# Altium integrated library TI Data Converters Analog to Digital Converter.IntLib: 2198 symbols (part 37 of 164)
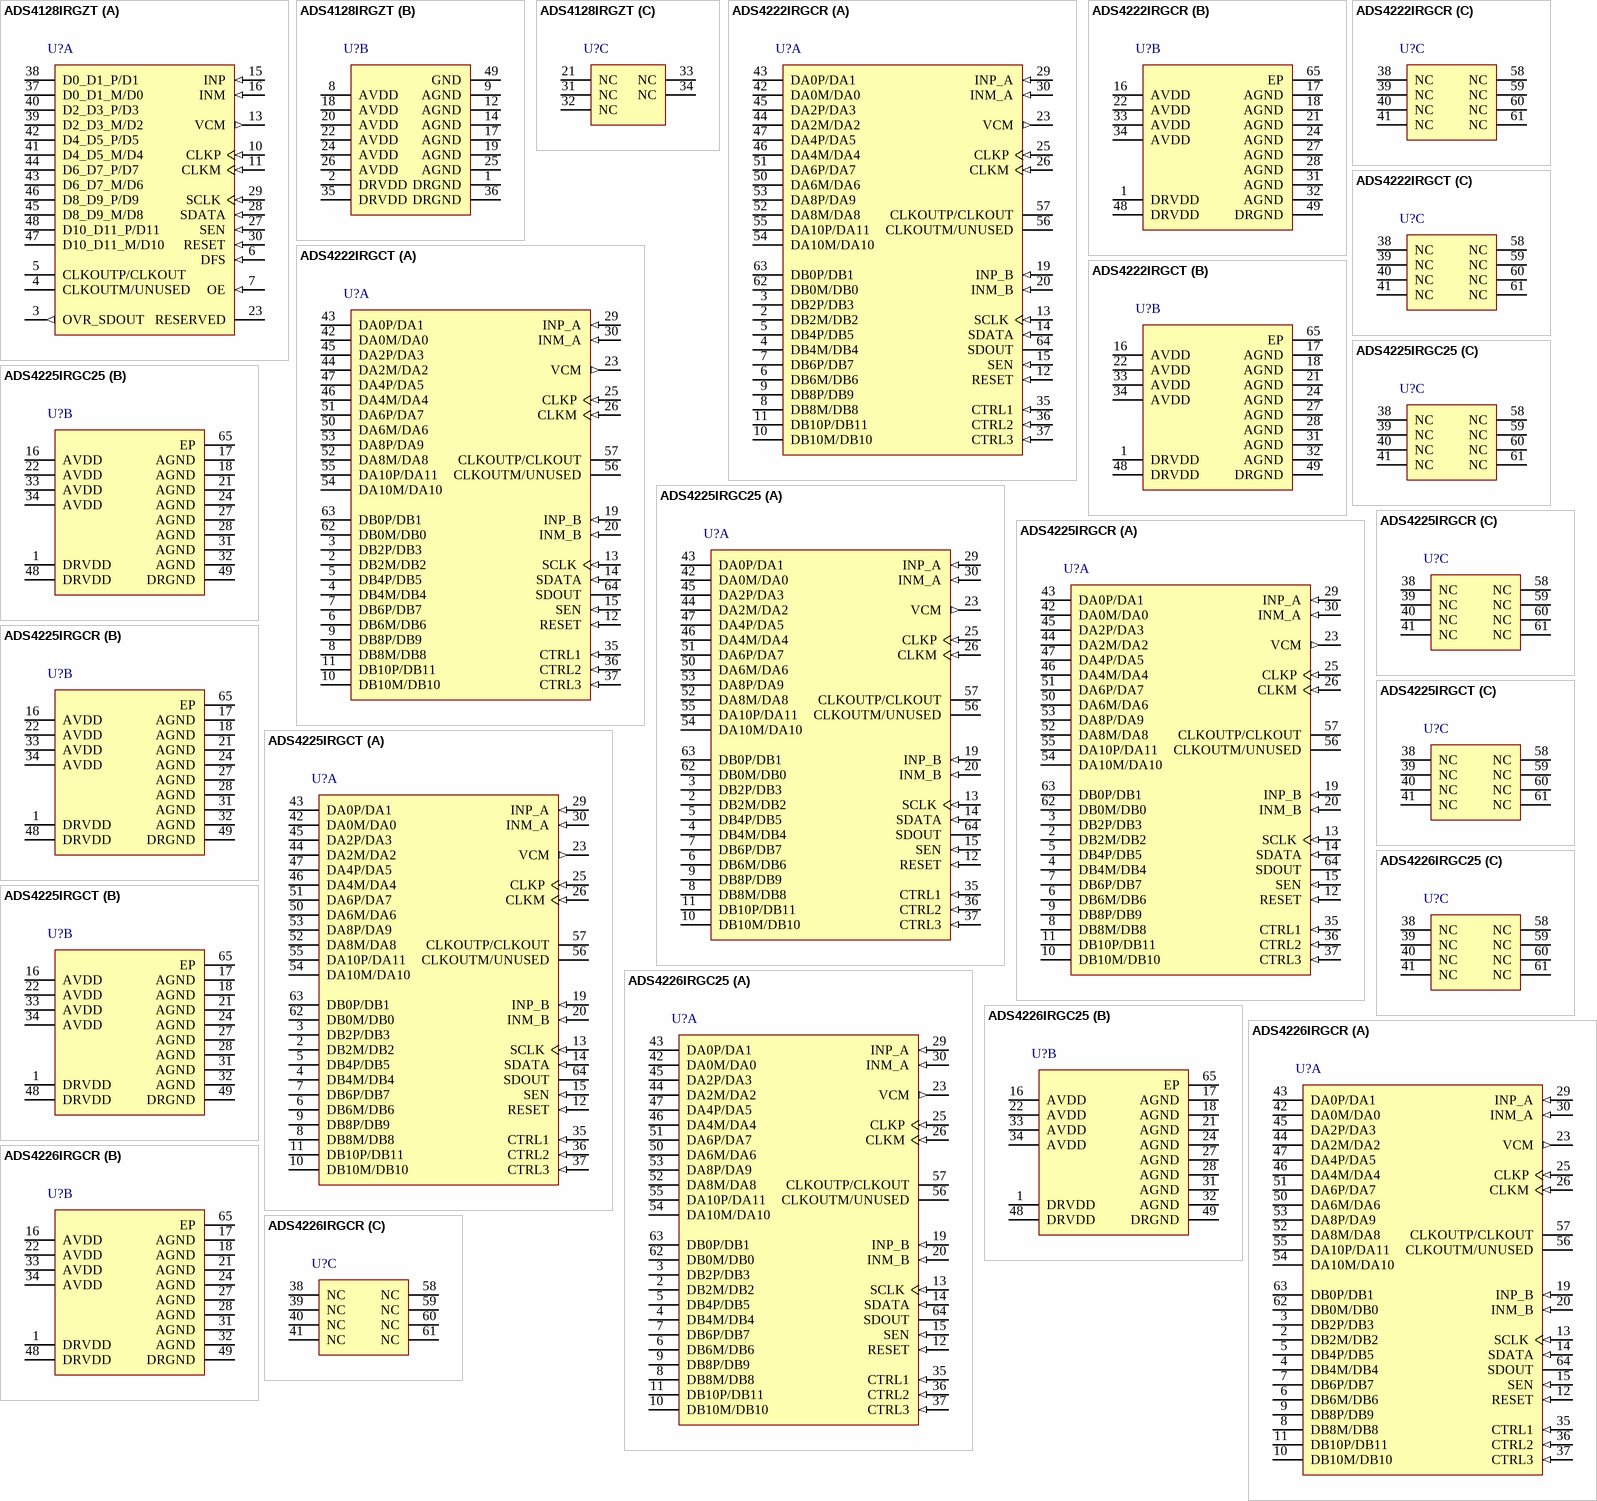
[diagram p162: symbols ADS4128IRGZT to ADS4226IRGCR]

## ADS4222IRGCT
designator U?
12-Bit 65 MSPS Dual Low Power ADC, -40 to 85 degC, 64-pin QFN (RGC64), Green (RoHS & no Sb/Br); Manufacturer: Texas Instruments; PartNumber: ADS4222IRGCT; # Input Channels: 2; Analog Voltage AV/DD(Max)(V): 1.9; Analog Voltage AV/DD(Min)(V): 1.7; Architecture: Pipeline; ENOB(Bits): 11.1; INL(Max)(+/-LSB): 2.5; Interface: Parallel CMOS, Parallel LVDS; Resolution(Bits): 12; Sample Rate (max)(SPS): 65M; SFDR(dB): 91; SINAD(dB): 70.8; SNR(dB): 70.9; SubFamily: High Speed ADC (>10MSPS); DatasheetVersion: SBAS533C; PackageVersion: 4204106/F, 11/2011; PackageReference: RGC64-7400X7400TP; PackageDescription: 64-Pin Plastic Quad Flatpack No-Lead, Body 9 x 9 mm, Pitch 0.5 mm; Supplier 1: Digi-Key; Supplier Part Number 1: 296-34195-5-ND; Digital Supply(Max)(V): 1.9; Digital Supply(Min)(V): 1.7; Eco-Plan: Green (RoHS & no Sb/Br); Mounting Technology: Surface Mount; ComponentLink1Description: Manufacturer URL; ComponentLink1URL: http://www.ti.com/; ComponentLink2Description: Datasheet; ComponentLink2URL: http://www.ti.com/general/docs/lit/getliterature.tsp?genericPartNumber=ADS4222&fileType=pdf; ComponentLink3Description: Package Specification; ComponentLink3URL: http://www.ti.com/litv/pdf/mpqf125e
footprint TI-RGC64-7400X7400TP_V (QFN, 64-Leads, Body 9x9mm, Pitch 0.5mm, Thermal Pad 7.4x7.4mm, TI Recommended)
part A pins: 2 DB2M/DB2 (hiz), 3 DB2P/DB3 (hiz), 4 DB4M/DB4 (hiz), 5 DB4P/DB5 (hiz), 6 DB6M/DB6 (hiz), 7 DB6P/DB7 (hiz), 8 DB8M/DB8 (hiz), 9 DB8P/DB9 (hiz), 10 DB10M/DB10 (hiz), 11 DB10P/DB11 (hiz), 12 RESET (in) "Serial interface RESET input. When using the serial interface mode, the internal registers must be initialized through a hardware RESET by applying a high pulse on this pin or by using the software reset option; refer to the (See Datasheet)", 13 SCLK (in) "This pin functions as a serial interface clock input when RESET is low. It controls the low-speed mode selection when RESET is tied high; see Table 5 for detailed information. This pin has an internal 150kOhm pull-down (See Datasheet)", 14 SDATA (in) "Serial interface data input; this pin has an internal 150kOhm pull-down resistor.", 15 SEN (in) "This pin functions as a serial interface enable input when RESET is low. It controls the output interface and data format selection when RESET is tied high; see Table 6 for detailed information. This pin has an internal (See Datasheet)", 19 INP_B (in) "Differential analog positive input, channel B", 20 INM_B (in) "Differential analog negative input, channel B", 23 VCM (out) "This pin outputs the common-mode voltage (0.95V) that can be used externally to bias the analog input pins", 25 CLKP (in) "Differential clock positive input", 26 CLKM (in) "Differential clock negative input", 29 INP_A (in) "Differential analog positive input, channel A", 30 INM_A (in) "Differential analog negative input, channel A", 35 CTRL1 (in) "Digital control input pins. Together, they control the various power-down modes.", 36 CTRL2 (in) "Digital control input pins. Together, they control the various power-down modes.", 37 CTRL3 (in) "Digital control input pins. Together, they control the various power-down modes.", 42 DA0M/DA0 (hiz), 43 DA0P/DA1 (hiz), 44 DA2M/DA2 (hiz), 45 DA2P/DA3 (hiz), 46 DA4M/DA4 (hiz), 47 DA4P/DA5 (hiz), 50 DA6M/DA6 (hiz), 51 DA6P/DA7 (hiz), 52 DA8M/DA8 (hiz), 53 DA8P/DA9 (hiz), 54 DA10M/DA10 (hiz), 55 DA10P/DA11 (hiz), 56 CLKOUTM/UNUSED (hiz), 57 CLKOUTP/CLKOUT (hiz), 62 DB0M/DB0 (hiz), 63 DB0P/DB1 (hiz), 64 SDOUT (hiz) "This pin functions as a serial interface register readout when the READOUT bit is enabled. When READOUT = 0, this pin is in high-impedance state."
part B pins: 1 DRVDD (power) "Output buffer supply", 16 AVDD (power) "Analog power supply", 17 AGND (power) "Analog ground", 18 AGND (power) "Analog ground", 21 AGND (power) "Analog ground", 22 AVDD (power) "Analog power supply", 24 AGND (power) "Analog ground", 27 AGND (power) "Analog ground", 28 AGND (power) "Analog ground", 31 AGND (power) "Analog ground", 32 AGND (power) "Analog ground", 33 AVDD (power) "Analog power supply", 34 AVDD (power) "Analog power supply", 48 DRVDD (power) "Output buffer supply", 49 DRGND (power) "Output buffer ground", 65 EP (power) "Output buffer ground"
part C pins: 38 NC "Do not connect, must be floated", 39 NC "Do not connect, must be floated", 40 NC "Do not connect, must be floated", 41 NC "Do not connect, must be floated", 58 NC "Do not connect, must be floated", 59 NC "Do not connect, must be floated", 60 NC "Do not connect, must be floated", 61 NC "Do not connect, must be floated"

## ADS4225IRGC25
designator U?
12-Bit 125 MSPS Dual Low Power ADC, -40 to 85 degC, 64-pin QFN (RGC64), Green (RoHS & no Sb/Br); Manufacturer: Texas Instruments; PartNumber: ADS4225IRGC25; # Input Channels: 2; Analog Voltage AV/DD(Max)(V): 1.9; Analog Voltage AV/DD(Min)(V): 1.7; Architecture: Pipeline; ENOB(Bits): 11.3; INL(Max)(+/-LSB): 3.5; Interface: Parallel CMOS, Parallel LVDS; Resolution(Bits): 12; Sample Rate (max)(SPS): 125M; SFDR(dB): 88; SINAD(dB): 70.7; SNR(dB): 70.8; SubFamily: High Speed ADC (>10MSPS); DatasheetVersion: SBAS533C; PackageVersion: 4204106/F, 11/2011; PackageReference: RGC64-7400X7400TP; PackageDescription: 64-Pin Plastic Quad Flatpack No-Lead, Body 9 x 9 mm, Pitch 0.5 mm; Supplier 1: Digi-Key; Supplier Part Number 1: THS1031CPWG4-ND; Digital Supply(Max)(V): 1.9; Digital Supply(Min)(V): 1.7; Eco-Plan: Green (RoHS & no Sb/Br); Mounting Technology: Surface Mount; ComponentLink1Description: Manufacturer URL; ComponentLink1URL: http://www.ti.com/; ComponentLink2Description: Datasheet; ComponentLink2URL: http://www.ti.com/general/docs/lit/getliterature.tsp?genericPartNumber=ADS4225&fileType=pdf; ComponentLink3Description: Package Specification; ComponentLink3URL: http://www.ti.com/litv/pdf/mpqf125e
footprint TI-RGC64-7400X7400TP_V (QFN, 64-Leads, Body 9x9mm, Pitch 0.5mm, Thermal Pad 7.4x7.4mm, TI Recommended)
part A pins: 2 DB2M/DB2 (hiz), 3 DB2P/DB3 (hiz), 4 DB4M/DB4 (hiz), 5 DB4P/DB5 (hiz), 6 DB6M/DB6 (hiz), 7 DB6P/DB7 (hiz), 8 DB8M/DB8 (hiz), 9 DB8P/DB9 (hiz), 10 DB10M/DB10 (hiz), 11 DB10P/DB11 (hiz), 12 RESET (in) "Serial interface RESET input. When using the serial interface mode, the internal registers must be initialized through a hardware RESET by applying a high pulse on this pin or by using the software reset option; refer to the (See Datasheet)", 13 SCLK (in) "This pin functions as a serial interface clock input when RESET is low. It controls the low-speed mode selection when RESET is tied high; see Table 5 for detailed information. This pin has an internal 150kOhm pull-down (See Datasheet)", 14 SDATA (in) "Serial interface data input; this pin has an internal 150kOhm pull-down resistor.", 15 SEN (in) "This pin functions as a serial interface enable input when RESET is low. It controls the output interface and data format selection when RESET is tied high; see Table 6 for detailed information. This pin has an internal (See Datasheet)", 19 INP_B (in) "Differential analog positive input, channel B", 20 INM_B (in) "Differential analog negative input, channel B", 23 VCM (out) "This pin outputs the common-mode voltage (0.95V) that can be used externally to bias the analog input pins", 25 CLKP (in) "Differential clock positive input", 26 CLKM (in) "Differential clock negative input", 29 INP_A (in) "Differential analog positive input, channel A", 30 INM_A (in) "Differential analog negative input, channel A", 35 CTRL1 (in) "Digital control input pins. Together, they control the various power-down modes.", 36 CTRL2 (in) "Digital control input pins. Together, they control the various power-down modes.", 37 CTRL3 (in) "Digital control input pins. Together, they control the various power-down modes.", 42 DA0M/DA0 (hiz), 43 DA0P/DA1 (hiz), 44 DA2M/DA2 (hiz), 45 DA2P/DA3 (hiz), 46 DA4M/DA4 (hiz), 47 DA4P/DA5 (hiz), 50 DA6M/DA6 (hiz), 51 DA6P/DA7 (hiz), 52 DA8M/DA8 (hiz), 53 DA8P/DA9 (hiz), 54 DA10M/DA10 (hiz), 55 DA10P/DA11 (hiz), 56 CLKOUTM/UNUSED (hiz), 57 CLKOUTP/CLKOUT (hiz), 62 DB0M/DB0 (hiz), 63 DB0P/DB1 (hiz), 64 SDOUT (hiz) "This pin functions as a serial interface register readout when the READOUT bit is enabled. When READOUT = 0, this pin is in high-impedance state."
part B pins: 1 DRVDD (power) "Output buffer supply", 16 AVDD (power) "Analog power supply", 17 AGND (power) "Analog ground", 18 AGND (power) "Analog ground", 21 AGND (power) "Analog ground", 22 AVDD (power) "Analog power supply", 24 AGND (power) "Analog ground", 27 AGND (power) "Analog ground", 28 AGND (power) "Analog ground", 31 AGND (power) "Analog ground", 32 AGND (power) "Analog ground", 33 AVDD (power) "Analog power supply", 34 AVDD (power) "Analog power supply", 48 DRVDD (power) "Output buffer supply", 49 DRGND (power) "Output buffer ground", 65 EP (power) "Output buffer ground"
part C pins: 38 NC "Do not connect, must be floated", 39 NC "Do not connect, must be floated", 40 NC "Do not connect, must be floated", 41 NC "Do not connect, must be floated", 58 NC "Do not connect, must be floated", 59 NC "Do not connect, must be floated", 60 NC "Do not connect, must be floated", 61 NC "Do not connect, must be floated"

## ADS4225IRGCR
designator U?
12-Bit 125 MSPS Dual Low Power ADC, -40 to 85 degC, 64-pin QFN (RGC64), Green (RoHS & no Sb/Br); Manufacturer: Texas Instruments; PartNumber: ADS4225IRGCR; # Input Channels: 2; Analog Voltage AV/DD(Max)(V): 1.9; Analog Voltage AV/DD(Min)(V): 1.7; Architecture: Pipeline; ENOB(Bits): 11.3; INL(Max)(+/-LSB): 3.5; Interface: Parallel CMOS, Parallel LVDS; Resolution(Bits): 12; Sample Rate (max)(SPS): 125M; SFDR(dB): 88; SINAD(dB): 70.7; SNR(dB): 70.8; SubFamily: High Speed ADC (>10MSPS); DatasheetVersion: SBAS533C; PackageVersion: 4204106/F, 11/2011; PackageReference: RGC64-7400X7400TP; PackageDescription: 64-Pin Plastic Quad Flatpack No-Lead, Body 9 x 9 mm, Pitch 0.5 mm; Supplier 1: Digi-Key; Supplier Part Number 1: THS1031CPWR-ND; Digital Supply(Max)(V): 1.9; Digital Supply(Min)(V): 1.7; Eco-Plan: Green (RoHS & no Sb/Br); Mounting Technology: Surface Mount; ComponentLink1Description: Manufacturer URL; ComponentLink1URL: http://www.ti.com/; ComponentLink2Description: Datasheet; ComponentLink2URL: http://www.ti.com/general/docs/lit/getliterature.tsp?genericPartNumber=ADS4225&fileType=pdf; ComponentLink3Description: Package Specification; ComponentLink3URL: http://www.ti.com/litv/pdf/mpqf125e
footprint TI-RGC64-7400X7400TP_V (QFN, 64-Leads, Body 9x9mm, Pitch 0.5mm, Thermal Pad 7.4x7.4mm, TI Recommended)
part A pins: 2 DB2M/DB2 (hiz), 3 DB2P/DB3 (hiz), 4 DB4M/DB4 (hiz), 5 DB4P/DB5 (hiz), 6 DB6M/DB6 (hiz), 7 DB6P/DB7 (hiz), 8 DB8M/DB8 (hiz), 9 DB8P/DB9 (hiz), 10 DB10M/DB10 (hiz), 11 DB10P/DB11 (hiz), 12 RESET (in) "Serial interface RESET input. When using the serial interface mode, the internal registers must be initialized through a hardware RESET by applying a high pulse on this pin or by using the software reset option; refer to the (See Datasheet)", 13 SCLK (in) "This pin functions as a serial interface clock input when RESET is low. It controls the low-speed mode selection when RESET is tied high; see Table 5 for detailed information. This pin has an internal 150kOhm pull-down (See Datasheet)", 14 SDATA (in) "Serial interface data input; this pin has an internal 150kOhm pull-down resistor.", 15 SEN (in) "This pin functions as a serial interface enable input when RESET is low. It controls the output interface and data format selection when RESET is tied high; see Table 6 for detailed information. This pin has an internal (See Datasheet)", 19 INP_B (in) "Differential analog positive input, channel B", 20 INM_B (in) "Differential analog negative input, channel B", 23 VCM (out) "This pin outputs the common-mode voltage (0.95V) that can be used externally to bias the analog input pins", 25 CLKP (in) "Differential clock positive input", 26 CLKM (in) "Differential clock negative input", 29 INP_A (in) "Differential analog positive input, channel A", 30 INM_A (in) "Differential analog negative input, channel A", 35 CTRL1 (in) "Digital control input pins. Together, they control the various power-down modes.", 36 CTRL2 (in) "Digital control input pins. Together, they control the various power-down modes.", 37 CTRL3 (in) "Digital control input pins. Together, they control the various power-down modes.", 42 DA0M/DA0 (hiz), 43 DA0P/DA1 (hiz), 44 DA2M/DA2 (hiz), 45 DA2P/DA3 (hiz), 46 DA4M/DA4 (hiz), 47 DA4P/DA5 (hiz), 50 DA6M/DA6 (hiz), 51 DA6P/DA7 (hiz), 52 DA8M/DA8 (hiz), 53 DA8P/DA9 (hiz), 54 DA10M/DA10 (hiz), 55 DA10P/DA11 (hiz), 56 CLKOUTM/UNUSED (hiz), 57 CLKOUTP/CLKOUT (hiz), 62 DB0M/DB0 (hiz), 63 DB0P/DB1 (hiz), 64 SDOUT (hiz) "This pin functions as a serial interface register readout when the READOUT bit is enabled. When READOUT = 0, this pin is in high-impedance state."
part B pins: 1 DRVDD (power) "Output buffer supply", 16 AVDD (power) "Analog power supply", 17 AGND (power) "Analog ground", 18 AGND (power) "Analog ground", 21 AGND (power) "Analog ground", 22 AVDD (power) "Analog power supply", 24 AGND (power) "Analog ground", 27 AGND (power) "Analog ground", 28 AGND (power) "Analog ground", 31 AGND (power) "Analog ground", 32 AGND (power) "Analog ground", 33 AVDD (power) "Analog power supply", 34 AVDD (power) "Analog power supply", 48 DRVDD (power) "Output buffer supply", 49 DRGND (power) "Output buffer ground", 65 EP (power) "Output buffer ground"
part C pins: 38 NC "Do not connect, must be floated", 39 NC "Do not connect, must be floated", 40 NC "Do not connect, must be floated", 41 NC "Do not connect, must be floated", 58 NC "Do not connect, must be floated", 59 NC "Do not connect, must be floated", 60 NC "Do not connect, must be floated", 61 NC "Do not connect, must be floated"

## ADS4225IRGCT
designator U?
12-Bit 125 MSPS Dual Low Power ADC, -40 to 85 degC, 64-pin QFN (RGC64), Green (RoHS & no Sb/Br); Manufacturer: Texas Instruments; PartNumber: ADS4225IRGCT; # Input Channels: 2; Analog Voltage AV/DD(Max)(V): 1.9; Analog Voltage AV/DD(Min)(V): 1.7; Architecture: Pipeline; ENOB(Bits): 11.3; INL(Max)(+/-LSB): 3.5; Interface: Parallel CMOS, Parallel LVDS; Resolution(Bits): 12; Sample Rate (max)(SPS): 125M; SFDR(dB): 88; SINAD(dB): 70.7; SNR(dB): 70.8; SubFamily: High Speed ADC (>10MSPS); DatasheetVersion: SBAS533C; PackageVersion: 4204106/F, 11/2011; PackageReference: RGC64-7400X7400TP; PackageDescription: 64-Pin Plastic Quad Flatpack No-Lead, Body 9 x 9 mm, Pitch 0.5 mm; Supplier 1: Digi-Key; Supplier Part Number 1: THS1031CPWRG4-ND; Digital Supply(Max)(V): 1.9; Digital Supply(Min)(V): 1.7; Eco-Plan: Green (RoHS & no Sb/Br); Mounting Technology: Surface Mount; ComponentLink1Description: Manufacturer URL; ComponentLink1URL: http://www.ti.com/; ComponentLink2Description: Datasheet; ComponentLink2URL: http://www.ti.com/general/docs/lit/getliterature.tsp?genericPartNumber=ADS4225&fileType=pdf; ComponentLink3Description: Package Specification; ComponentLink3URL: http://www.ti.com/litv/pdf/mpqf125e
footprint TI-RGC64-7400X7400TP_V (QFN, 64-Leads, Body 9x9mm, Pitch 0.5mm, Thermal Pad 7.4x7.4mm, TI Recommended)
part A pins: 2 DB2M/DB2 (hiz), 3 DB2P/DB3 (hiz), 4 DB4M/DB4 (hiz), 5 DB4P/DB5 (hiz), 6 DB6M/DB6 (hiz), 7 DB6P/DB7 (hiz), 8 DB8M/DB8 (hiz), 9 DB8P/DB9 (hiz), 10 DB10M/DB10 (hiz), 11 DB10P/DB11 (hiz), 12 RESET (in) "Serial interface RESET input. When using the serial interface mode, the internal registers must be initialized through a hardware RESET by applying a high pulse on this pin or by using the software reset option; refer to the (See Datasheet)", 13 SCLK (in) "This pin functions as a serial interface clock input when RESET is low. It controls the low-speed mode selection when RESET is tied high; see Table 5 for detailed information. This pin has an internal 150kOhm pull-down (See Datasheet)", 14 SDATA (in) "Serial interface data input; this pin has an internal 150kOhm pull-down resistor.", 15 SEN (in) "This pin functions as a serial interface enable input when RESET is low. It controls the output interface and data format selection when RESET is tied high; see Table 6 for detailed information. This pin has an internal (See Datasheet)", 19 INP_B (in) "Differential analog positive input, channel B", 20 INM_B (in) "Differential analog negative input, channel B", 23 VCM (out) "This pin outputs the common-mode voltage (0.95V) that can be used externally to bias the analog input pins", 25 CLKP (in) "Differential clock positive input", 26 CLKM (in) "Differential clock negative input", 29 INP_A (in) "Differential analog positive input, channel A", 30 INM_A (in) "Differential analog negative input, channel A", 35 CTRL1 (in) "Digital control input pins. Together, they control the various power-down modes.", 36 CTRL2 (in) "Digital control input pins. Together, they control the various power-down modes.", 37 CTRL3 (in) "Digital control input pins. Together, they control the various power-down modes.", 42 DA0M/DA0 (hiz), 43 DA0P/DA1 (hiz), 44 DA2M/DA2 (hiz), 45 DA2P/DA3 (hiz), 46 DA4M/DA4 (hiz), 47 DA4P/DA5 (hiz), 50 DA6M/DA6 (hiz), 51 DA6P/DA7 (hiz), 52 DA8M/DA8 (hiz), 53 DA8P/DA9 (hiz), 54 DA10M/DA10 (hiz), 55 DA10P/DA11 (hiz), 56 CLKOUTM/UNUSED (hiz), 57 CLKOUTP/CLKOUT (hiz), 62 DB0M/DB0 (hiz), 63 DB0P/DB1 (hiz), 64 SDOUT (hiz) "This pin functions as a serial interface register readout when the READOUT bit is enabled. When READOUT = 0, this pin is in high-impedance state."
part B pins: 1 DRVDD (power) "Output buffer supply", 16 AVDD (power) "Analog power supply", 17 AGND (power) "Analog ground", 18 AGND (power) "Analog ground", 21 AGND (power) "Analog ground", 22 AVDD (power) "Analog power supply", 24 AGND (power) "Analog ground", 27 AGND (power) "Analog ground", 28 AGND (power) "Analog ground", 31 AGND (power) "Analog ground", 32 AGND (power) "Analog ground", 33 AVDD (power) "Analog power supply", 34 AVDD (power) "Analog power supply", 48 DRVDD (power) "Output buffer supply", 49 DRGND (power) "Output buffer ground", 65 EP (power) "Output buffer ground"
part C pins: 38 NC "Do not connect, must be floated", 39 NC "Do not connect, must be floated", 40 NC "Do not connect, must be floated", 41 NC "Do not connect, must be floated", 58 NC "Do not connect, must be floated", 59 NC "Do not connect, must be floated", 60 NC "Do not connect, must be floated", 61 NC "Do not connect, must be floated"

## ADS4226IRGC25
designator U?
12-Bit 160 MSPS Dual Low Power ADC, -40 to 85 degC, 64-pin QFN (RGC64), Green (RoHS & no Sb/Br); Manufacturer: Texas Instruments; PartNumber: ADS4226IRGC25; # Input Channels: 2; Analog Voltage AV/DD(Max)(V): 1.9; Analog Voltage AV/DD(Min)(V): 1.7; Architecture: Pipeline; ENOB(Bits): 11.2; INL(Max)(+/-LSB): 3.5; Interface: Parallel CMOS, Parallel LVDS; Resolution(Bits): 12; Sample Rate (max)(SPS): 160M; SFDR(dB): 86; SINAD(dB): 70.4; SNR(dB): 70.5; SubFamily: High Speed ADC (>10MSPS); DatasheetVersion: SBAS533C; PackageVersion: 4204106/F, 11/2011; PackageReference: RGC64-7400X7400TP; PackageDescription: 64-Pin Plastic Quad Flatpack No-Lead, Body 9 x 9 mm, Pitch 0.5 mm; Supplier 1: Digi-Key; Supplier Part Number 1: 296-2829-5-ND; Digital Supply(Max)(V): 1.9; Digital Supply(Min)(V): 1.7; Eco-Plan: Green (RoHS & no Sb/Br); Mounting Technology: Surface Mount; ComponentLink1Description: Manufacturer URL; ComponentLink1URL: http://www.ti.com/; ComponentLink2Description: Datasheet; ComponentLink2URL: http://www.ti.com/general/docs/lit/getliterature.tsp?genericPartNumber=ADS4226&fileType=pdf; ComponentLink3Description: Package Specification; ComponentLink3URL: http://www.ti.com/litv/pdf/mpqf125e
footprint TI-RGC64-7400X7400TP_V (QFN, 64-Leads, Body 9x9mm, Pitch 0.5mm, Thermal Pad 7.4x7.4mm, TI Recommended)
part A pins: 2 DB2M/DB2 (hiz), 3 DB2P/DB3 (hiz), 4 DB4M/DB4 (hiz), 5 DB4P/DB5 (hiz), 6 DB6M/DB6 (hiz), 7 DB6P/DB7 (hiz), 8 DB8M/DB8 (hiz), 9 DB8P/DB9 (hiz), 10 DB10M/DB10 (hiz), 11 DB10P/DB11 (hiz), 12 RESET (in) "Serial interface RESET input. When using the serial interface mode, the internal registers must be initialized through a hardware RESET by applying a high pulse on this pin or by using the software reset option; refer to the (See Datasheet)", 13 SCLK (in) "This pin functions as a serial interface clock input when RESET is low. It controls the low-speed mode selection when RESET is tied high; see Table 5 for detailed information. This pin has an internal 150kOhm pull-down (See Datasheet)", 14 SDATA (in) "Serial interface data input; this pin has an internal 150kOhm pull-down resistor.", 15 SEN (in) "This pin functions as a serial interface enable input when RESET is low. It controls the output interface and data format selection when RESET is tied high; see Table 6 for detailed information. This pin has an internal (See Datasheet)", 19 INP_B (in) "Differential analog positive input, channel B", 20 INM_B (in) "Differential analog negative input, channel B", 23 VCM (out) "This pin outputs the common-mode voltage (0.95V) that can be used externally to bias the analog input pins", 25 CLKP (in) "Differential clock positive input", 26 CLKM (in) "Differential clock negative input", 29 INP_A (in) "Differential analog positive input, channel A", 30 INM_A (in) "Differential analog negative input, channel A", 35 CTRL1 (in) "Digital control input pins. Together, they control the various power-down modes.", 36 CTRL2 (in) "Digital control input pins. Together, they control the various power-down modes.", 37 CTRL3 (in) "Digital control input pins. Together, they control the various power-down modes.", 42 DA0M/DA0 (hiz), 43 DA0P/DA1 (hiz), 44 DA2M/DA2 (hiz), 45 DA2P/DA3 (hiz), 46 DA4M/DA4 (hiz), 47 DA4P/DA5 (hiz), 50 DA6M/DA6 (hiz), 51 DA6P/DA7 (hiz), 52 DA8M/DA8 (hiz), 53 DA8P/DA9 (hiz), 54 DA10M/DA10 (hiz), 55 DA10P/DA11 (hiz), 56 CLKOUTM/UNUSED (hiz), 57 CLKOUTP/CLKOUT (hiz), 62 DB0M/DB0 (hiz), 63 DB0P/DB1 (hiz), 64 SDOUT (hiz) "This pin functions as a serial interface register readout when the READOUT bit is enabled. When READOUT = 0, this pin is in high-impedance state."
part B pins: 1 DRVDD (power) "Output buffer supply", 16 AVDD (power) "Analog power supply", 17 AGND (power) "Analog ground", 18 AGND (power) "Analog ground", 21 AGND (power) "Analog ground", 22 AVDD (power) "Analog power supply", 24 AGND (power) "Analog ground", 27 AGND (power) "Analog ground", 28 AGND (power) "Analog ground", 31 AGND (power) "Analog ground", 32 AGND (power) "Analog ground", 33 AVDD (power) "Analog power supply", 34 AVDD (power) "Analog power supply", 48 DRVDD (power) "Output buffer supply", 49 DRGND (power) "Output buffer ground", 65 EP (power) "Output buffer ground"
part C pins: 38 NC "Do not connect, must be floated", 39 NC "Do not connect, must be floated", 40 NC "Do not connect, must be floated", 41 NC "Do not connect, must be floated", 58 NC "Do not connect, must be floated", 59 NC "Do not connect, must be floated", 60 NC "Do not connect, must be floated", 61 NC "Do not connect, must be floated"

## ADS4226IRGCR
designator U?
12-Bit 160 MSPS Dual Low Power ADC, -40 to 85 degC, 64-pin QFN (RGC64), Green (RoHS & no Sb/Br); Manufacturer: Texas Instruments; PartNumber: ADS4226IRGCR; # Input Channels: 2; Analog Voltage AV/DD(Max)(V): 1.9; Analog Voltage AV/DD(Min)(V): 1.7; Architecture: Pipeline; ENOB(Bits): 11.2; INL(Max)(+/-LSB): 3.5; Interface: Parallel CMOS, Parallel LVDS; Resolution(Bits): 12; Sample Rate (max)(SPS): 160M; SFDR(dB): 86; SINAD(dB): 70.4; SNR(dB): 70.5; SubFamily: High Speed ADC (>10MSPS); DatasheetVersion: SBAS533C; PackageVersion: 4204106/F, 11/2011; PackageReference: RGC64-7400X7400TP; PackageDescription: 64-Pin Plastic Quad Flatpack No-Lead, Body 9 x 9 mm, Pitch 0.5 mm; Supplier 1: Digi-Key; Supplier Part Number 1: THS1031IPWG4-ND; Digital Supply(Max)(V): 1.9; Digital Supply(Min)(V): 1.7; Eco-Plan: Green (RoHS & no Sb/Br); Mounting Technology: Surface Mount; ComponentLink1Description: Manufacturer URL; ComponentLink1URL: http://www.ti.com/; ComponentLink2Description: Datasheet; ComponentLink2URL: http://www.ti.com/general/docs/lit/getliterature.tsp?genericPartNumber=ADS4226&fileType=pdf; ComponentLink3Description: Package Specification; ComponentLink3URL: http://www.ti.com/litv/pdf/mpqf125e
footprint TI-RGC64-7400X7400TP_V (QFN, 64-Leads, Body 9x9mm, Pitch 0.5mm, Thermal Pad 7.4x7.4mm, TI Recommended)
part A pins: 2 DB2M/DB2 (hiz), 3 DB2P/DB3 (hiz), 4 DB4M/DB4 (hiz), 5 DB4P/DB5 (hiz), 6 DB6M/DB6 (hiz), 7 DB6P/DB7 (hiz), 8 DB8M/DB8 (hiz), 9 DB8P/DB9 (hiz), 10 DB10M/DB10 (hiz), 11 DB10P/DB11 (hiz), 12 RESET (in) "Serial interface RESET input. When using the serial interface mode, the internal registers must be initialized through a hardware RESET by applying a high pulse on this pin or by using the software reset option; refer to the (See Datasheet)", 13 SCLK (in) "This pin functions as a serial interface clock input when RESET is low. It controls the low-speed mode selection when RESET is tied high; see Table 5 for detailed information. This pin has an internal 150kOhm pull-down (See Datasheet)", 14 SDATA (in) "Serial interface data input; this pin has an internal 150kOhm pull-down resistor.", 15 SEN (in) "This pin functions as a serial interface enable input when RESET is low. It controls the output interface and data format selection when RESET is tied high; see Table 6 for detailed information. This pin has an internal (See Datasheet)", 19 INP_B (in) "Differential analog positive input, channel B", 20 INM_B (in) "Differential analog negative input, channel B", 23 VCM (out) "This pin outputs the common-mode voltage (0.95V) that can be used externally to bias the analog input pins", 25 CLKP (in) "Differential clock positive input", 26 CLKM (in) "Differential clock negative input", 29 INP_A (in) "Differential analog positive input, channel A", 30 INM_A (in) "Differential analog negative input, channel A", 35 CTRL1 (in) "Digital control input pins. Together, they control the various power-down modes.", 36 CTRL2 (in) "Digital control input pins. Together, they control the various power-down modes.", 37 CTRL3 (in) "Digital control input pins. Together, they control the various power-down modes.", 42 DA0M/DA0 (hiz), 43 DA0P/DA1 (hiz), 44 DA2M/DA2 (hiz), 45 DA2P/DA3 (hiz), 46 DA4M/DA4 (hiz), 47 DA4P/DA5 (hiz), 50 DA6M/DA6 (hiz), 51 DA6P/DA7 (hiz), 52 DA8M/DA8 (hiz), 53 DA8P/DA9 (hiz), 54 DA10M/DA10 (hiz), 55 DA10P/DA11 (hiz), 56 CLKOUTM/UNUSED (hiz), 57 CLKOUTP/CLKOUT (hiz), 62 DB0M/DB0 (hiz), 63 DB0P/DB1 (hiz), 64 SDOUT (hiz) "This pin functions as a serial interface register readout when the READOUT bit is enabled. When READOUT = 0, this pin is in high-impedance state."
part B pins: 1 DRVDD (power) "Output buffer supply", 16 AVDD (power) "Analog power supply", 17 AGND (power) "Analog ground", 18 AGND (power) "Analog ground", 21 AGND (power) "Analog ground", 22 AVDD (power) "Analog power supply", 24 AGND (power) "Analog ground", 27 AGND (power) "Analog ground", 28 AGND (power) "Analog ground", 31 AGND (power) "Analog ground", 32 AGND (power) "Analog ground", 33 AVDD (power) "Analog power supply", 34 AVDD (power) "Analog power supply", 48 DRVDD (power) "Output buffer supply", 49 DRGND (power) "Output buffer ground", 65 EP (power) "Output buffer ground"
part C pins: 38 NC "Do not connect, must be floated", 39 NC "Do not connect, must be floated", 40 NC "Do not connect, must be floated", 41 NC "Do not connect, must be floated", 58 NC "Do not connect, must be floated", 59 NC "Do not connect, must be floated", 60 NC "Do not connect, must be floated", 61 NC "Do not connect, must be floated"

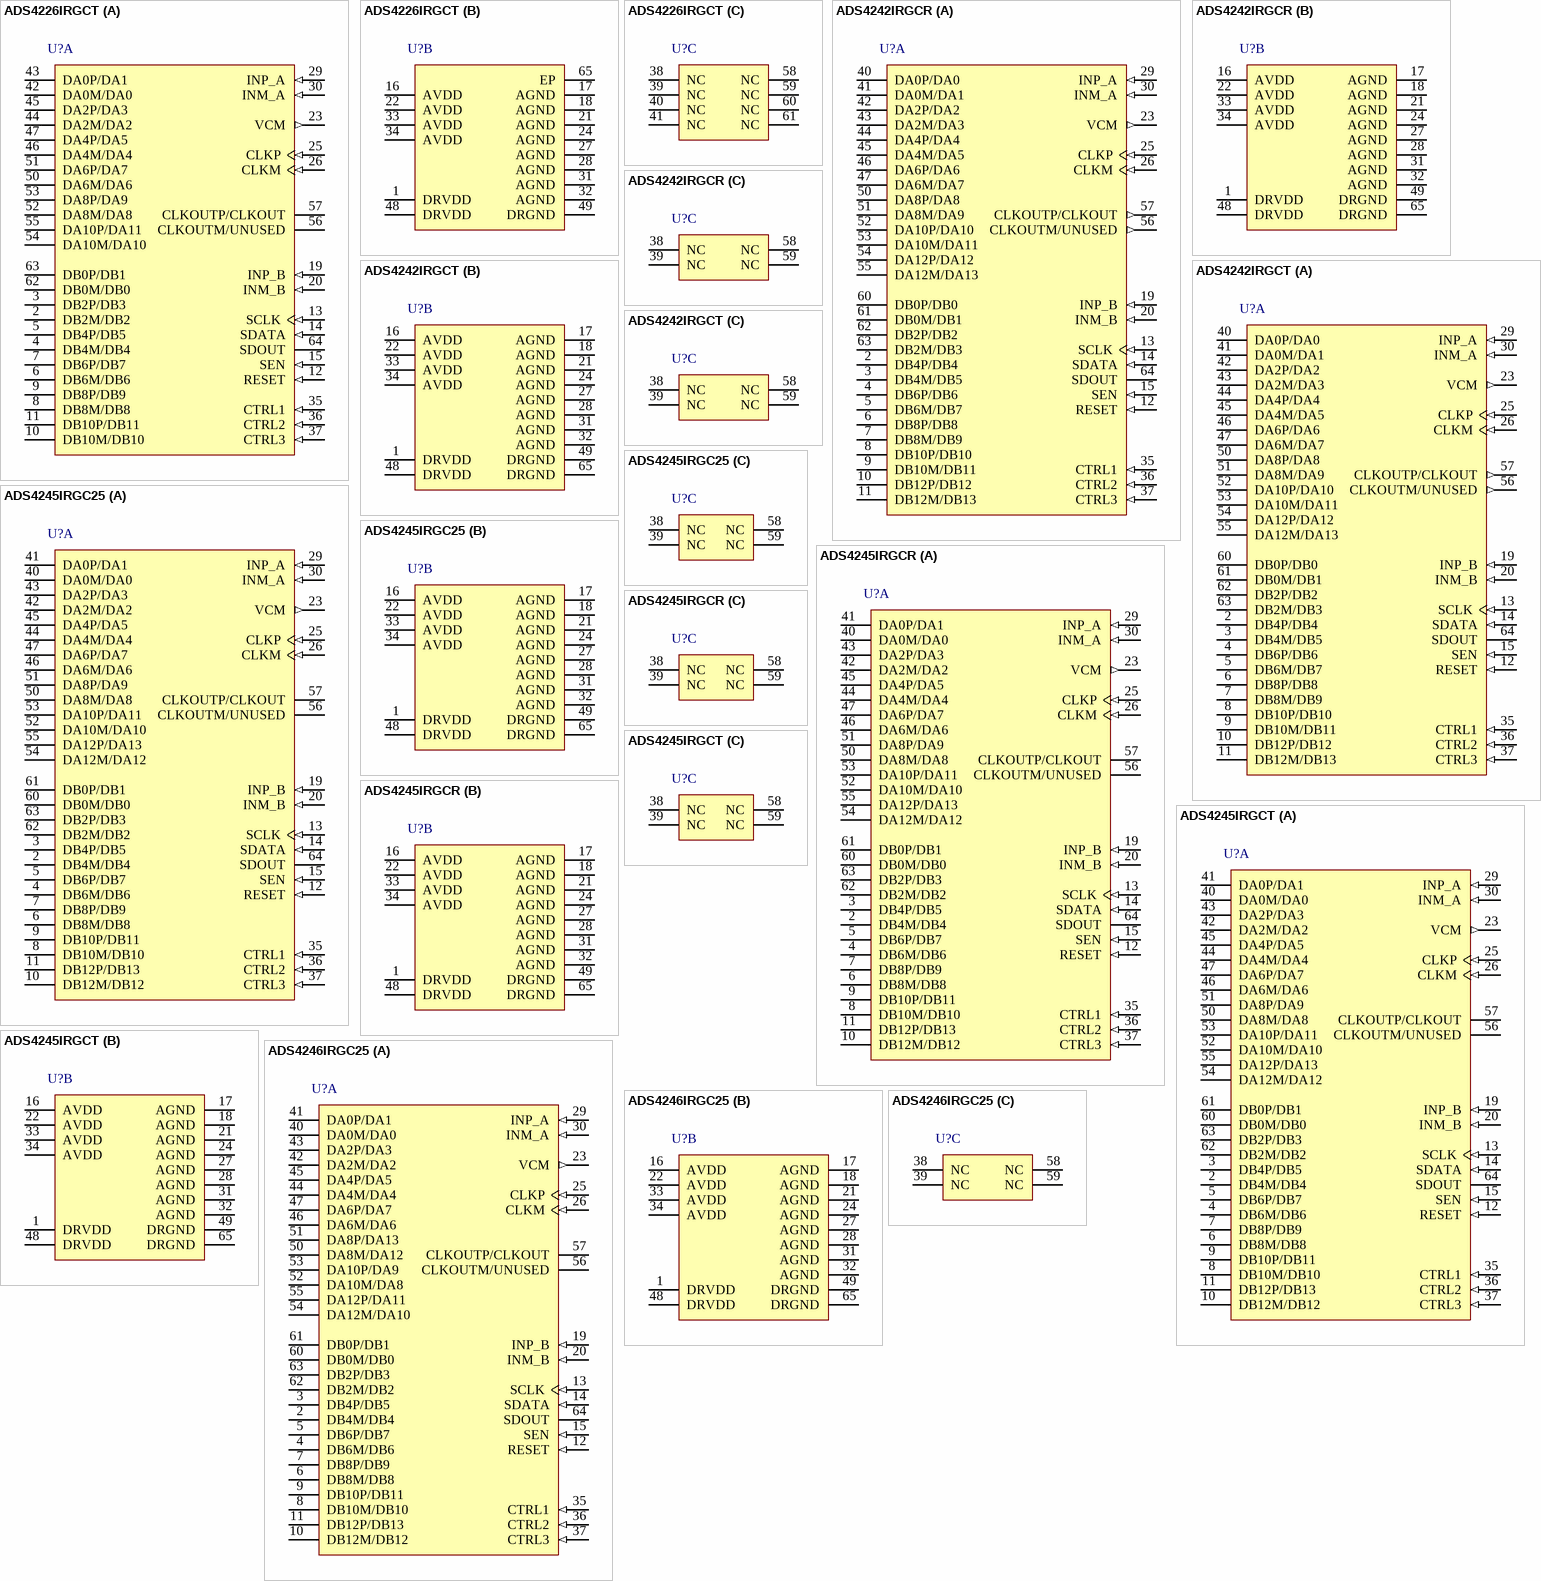
[diagram p33: symbols ADS4226IRGCT to ADS4246IRGC25]

## ADS4226IRGCT
designator U?
12-Bit 160 MSPS Dual Low Power ADC, -40 to 85 degC, 64-pin QFN (RGC64), Green (RoHS & no Sb/Br); Manufacturer: Texas Instruments; PartNumber: ADS4226IRGCT; # Input Channels: 2; Analog Voltage AV/DD(Max)(V): 1.9; Analog Voltage AV/DD(Min)(V): 1.7; Architecture: Pipeline; ENOB(Bits): 11.2; INL(Max)(+/-LSB): 3.5; Interface: Parallel CMOS, Parallel LVDS; Resolution(Bits): 12; Sample Rate (max)(SPS): 160M; SFDR(dB): 86; SINAD(dB): 70.4; SNR(dB): 70.5; SubFamily: High Speed ADC (>10MSPS); DatasheetVersion: SBAS533C; PackageVersion: 4204106/F, 11/2011; PackageReference: RGC64-7400X7400TP; PackageDescription: 64-Pin Plastic Quad Flatpack No-Lead, Body 9 x 9 mm, Pitch 0.5 mm; Supplier 1: Digi-Key; Supplier Part Number 1: 296-18271-2-ND; Digital Supply(Max)(V): 1.9; Digital Supply(Min)(V): 1.7; Eco-Plan: Green (RoHS & no Sb/Br); Mounting Technology: Surface Mount; ComponentLink1Description: Manufacturer URL; ComponentLink1URL: http://www.ti.com/; ComponentLink2Description: Datasheet; ComponentLink2URL: http://www.ti.com/general/docs/lit/getliterature.tsp?genericPartNumber=ADS4226&fileType=pdf; ComponentLink3Description: Package Specification; ComponentLink3URL: http://www.ti.com/litv/pdf/mpqf125e
footprint TI-RGC64-7400X7400TP_V (QFN, 64-Leads, Body 9x9mm, Pitch 0.5mm, Thermal Pad 7.4x7.4mm, TI Recommended)
part A pins: 2 DB2M/DB2 (hiz), 3 DB2P/DB3 (hiz), 4 DB4M/DB4 (hiz), 5 DB4P/DB5 (hiz), 6 DB6M/DB6 (hiz), 7 DB6P/DB7 (hiz), 8 DB8M/DB8 (hiz), 9 DB8P/DB9 (hiz), 10 DB10M/DB10 (hiz), 11 DB10P/DB11 (hiz), 12 RESET (in) "Serial interface RESET input. When using the serial interface mode, the internal registers must be initialized through a hardware RESET by applying a high pulse on this pin or by using the software reset option; refer to the (See Datasheet)", 13 SCLK (in) "This pin functions as a serial interface clock input when RESET is low. It controls the low-speed mode selection when RESET is tied high; see Table 5 for detailed information. This pin has an internal 150kOhm pull-down (See Datasheet)", 14 SDATA (in) "Serial interface data input; this pin has an internal 150kOhm pull-down resistor.", 15 SEN (in) "This pin functions as a serial interface enable input when RESET is low. It controls the output interface and data format selection when RESET is tied high; see Table 6 for detailed information. This pin has an internal (See Datasheet)", 19 INP_B (in) "Differential analog positive input, channel B", 20 INM_B (in) "Differential analog negative input, channel B", 23 VCM (out) "This pin outputs the common-mode voltage (0.95V) that can be used externally to bias the analog input pins", 25 CLKP (in) "Differential clock positive input", 26 CLKM (in) "Differential clock negative input", 29 INP_A (in) "Differential analog positive input, channel A", 30 INM_A (in) "Differential analog negative input, channel A", 35 CTRL1 (in) "Digital control input pins. Together, they control the various power-down modes.", 36 CTRL2 (in) "Digital control input pins. Together, they control the various power-down modes.", 37 CTRL3 (in) "Digital control input pins. Together, they control the various power-down modes.", 42 DA0M/DA0 (hiz), 43 DA0P/DA1 (hiz), 44 DA2M/DA2 (hiz), 45 DA2P/DA3 (hiz), 46 DA4M/DA4 (hiz), 47 DA4P/DA5 (hiz), 50 DA6M/DA6 (hiz), 51 DA6P/DA7 (hiz), 52 DA8M/DA8 (hiz), 53 DA8P/DA9 (hiz), 54 DA10M/DA10 (hiz), 55 DA10P/DA11 (hiz), 56 CLKOUTM/UNUSED (hiz), 57 CLKOUTP/CLKOUT (hiz), 62 DB0M/DB0 (hiz), 63 DB0P/DB1 (hiz), 64 SDOUT (hiz) "This pin functions as a serial interface register readout when the READOUT bit is enabled. When READOUT = 0, this pin is in high-impedance state."
part B pins: 1 DRVDD (power) "Output buffer supply", 16 AVDD (power) "Analog power supply", 17 AGND (power) "Analog ground", 18 AGND (power) "Analog ground", 21 AGND (power) "Analog ground", 22 AVDD (power) "Analog power supply", 24 AGND (power) "Analog ground", 27 AGND (power) "Analog ground", 28 AGND (power) "Analog ground", 31 AGND (power) "Analog ground", 32 AGND (power) "Analog ground", 33 AVDD (power) "Analog power supply", 34 AVDD (power) "Analog power supply", 48 DRVDD (power) "Output buffer supply", 49 DRGND (power) "Output buffer ground", 65 EP (power) "Output buffer ground"
part C pins: 38 NC "Do not connect, must be floated", 39 NC "Do not connect, must be floated", 40 NC "Do not connect, must be floated", 41 NC "Do not connect, must be floated", 58 NC "Do not connect, must be floated", 59 NC "Do not connect, must be floated", 60 NC "Do not connect, must be floated", 61 NC "Do not connect, must be floated"

## ADS4242IRGCR
designator U?
14-Bit 65 MSPS Dual Low Power ADC, -40 to 85 degC, 64-pin QFN (RGC64), Green (RoHS & no Sb/Br); Manufacturer: Texas Instruments; PartNumber: ADS4242IRGCR; # Input Channels: 2; Analog Voltage AV/DD(Max)(V): 1.9; Analog Voltage AV/DD(Min)(V): 1.7; Architecture: Pipeline; ENOB(Bits): 11.4; INL(Max)(+/-LSB): 5; Interface: Parallel CMOS, Parallel LVDS; Resolution(Bits): 14; Sample Rate (max)(SPS): 65M; SFDR(dB): 91; SINAD(dB): 73.5; SNR(dB): 73.6; SubFamily: High Speed ADC (>10MSPS); DatasheetVersion: SBAS533C; PackageVersion: 4204106/F, 11/2011; PackageReference: RGC64-7400X7400TP; PackageDescription: 64-Pin Plastic Quad Flatpack No-Lead, Body 9 x 9 mm, Pitch 0.5 mm; Supplier 1: Digi-Key; Supplier Part Number 1: ADS8370IBRHPTG4-ND; Digital Supply(Max)(V): 1.9; Digital Supply(Min)(V): 1.7; Eco-Plan: Green (RoHS & no Sb/Br); Mounting Technology: Surface Mount; ComponentLink1Description: Manufacturer URL; ComponentLink1URL: http://www.ti.com/; ComponentLink2Description: Datasheet; ComponentLink2URL: http://www.ti.com/general/docs/lit/getliterature.tsp?genericPartNumber=ADS4242&fileType=pdf; ComponentLink3Description: Package Specification; ComponentLink3URL: http://www.ti.com/litv/pdf/mpqf125e
footprint TI-RGC64-7400X7400TP_V (QFN, 64-Leads, Body 9x9mm, Pitch 0.5mm, Thermal Pad 7.4x7.4mm, TI Recommended)
part A pins: 2 DB4P/DB4 (hiz), 3 DB4M/DB5 (hiz), 4 DB6P/DB6 (hiz), 5 DB6M/DB7 (hiz), 6 DB8P/DB8 (hiz), 7 DB8M/DB9 (hiz), 8 DB10P/DB10 (hiz), 9 DB10M/DB11 (hiz), 10 DB12P/DB12 (hiz), 11 DB12M/DB13 (hiz), 12 RESET (in) "Serial interface RESET input. When using the serial interface mode, the internal registers must be initialized through a hardware RESET by applying a high pulse on this pin or by using the software reset option; refer to the (See Datasheet)", 13 SCLK (in) "This pin functions as a serial interface clock input when RESET is low. It controls the low-speed mode selection when RESET is tied high; see Table 5 for detailed information. This pin has an internal 150kohm pull-down (See Datasheet)", 14 SDATA (in) "Serial interface data input; this pin has an internal 150kohm pull-down resistor.", 15 SEN (in) "This pin functions as a serial interface enable input when RESET is low. It controls the output interface and data format selection when RESET is tied high; see Table 6 for detailed information. This pin has an internal (See Datasheet)", 19 INP_B (in) "Differential analog positive input, channel B", 20 INM_B (in) "Differential analog negative input, channel B", 23 VCM (out) "This pin outputs the common-mode voltage (0.95V) that can be used externally to bias the analog input pins", 25 CLKP (in) "Differential clock positive input", 26 CLKM (in) "Differential clock negative input", 29 INP_A (in) "Differential analog positive input, channel A", 30 INM_A (in) "Differential analog negative input, channel A", 35 CTRL1 (in) "Digital control input pins. Together, they control the various power-down modes.", 36 CTRL2 (in) "Digital control input pins. Together, they control the various power-down modes.", 37 CTRL3 (in) "Digital control input pins. Together, they control the various power-down modes.", 40 DA0P/DA0 (hiz), 41 DA0M/DA1 (hiz), 42 DA2P/DA2 (hiz), 43 DA2M/DA3 (hiz), 44 DA4P/DA4 (hiz), 45 DA4M/DA5 (hiz), 46 DA6P/DA6 (hiz), 47 DA6M/DA7 (hiz), 50 DA8P/DA8 (hiz), 51 DA8M/DA9 (hiz), 52 DA10P/DA10 (hiz), 53 DA10M/DA11 (hiz), 54 DA12P/DA12 (hiz), 55 DA12M/DA13 (hiz), 56 CLKOUTM/UNUSED (out), 57 CLKOUTP/CLKOUT (out), 60 DB0P/DB0 (hiz), 61 DB0M/DB1 (hiz), 62 DB2P/DB2 (hiz), 63 DB2M/DB3 (hiz), 64 SDOUT (hiz) "This pin functions as a serial interface register readout when the READOUT bit is enabled. When READOUT = 0, this pin is in high-impedance state."
part B pins: 1 DRVDD (power) "Output buffer supply", 16 AVDD (power) "Analog power supply", 17 AGND (power) "Analog ground", 18 AGND (power) "Analog ground", 21 AGND (power) "Analog ground", 22 AVDD (power) "Analog power supply", 24 AGND (power) "Analog ground", 27 AGND (power) "Analog ground", 28 AGND (power) "Analog ground", 31 AGND (power) "Analog ground", 32 AGND (power) "Analog ground", 33 AVDD (power) "Analog power supply", 34 AVDD (power) "Analog power supply", 48 DRVDD (power) "Output buffer supply", 49 DRGND (power) "Output buffer ground", 65 DRGND (power) "Output buffer ground"
part C pins: 38 NC "Do not connect, must be floated", 39 NC "Do not connect, must be floated", 58 NC "Do not connect, must be floated", 59 NC "Do not connect, must be floated"

## ADS4242IRGCT
designator U?
14-Bit 65 MSPS Dual Low Power ADC, -40 to 85 degC, 64-pin QFN (RGC64), Green (RoHS & no Sb/Br); Manufacturer: Texas Instruments; PartNumber: ADS4242IRGCT; # Input Channels: 2; Analog Voltage AV/DD(Max)(V): 1.9; Analog Voltage AV/DD(Min)(V): 1.7; Architecture: Pipeline; ENOB(Bits): 11.4; INL(Max)(+/-LSB): 5; Interface: Parallel CMOS, Parallel LVDS; Resolution(Bits): 14; Sample Rate (max)(SPS): 65M; SFDR(dB): 91; SINAD(dB): 73.5; SNR(dB): 73.6; SubFamily: High Speed ADC (>10MSPS); DatasheetVersion: SBAS533C; PackageVersion: 4204106/F, 11/2011; PackageReference: RGC64-7400X7400TP; PackageDescription: 64-Pin Plastic Quad Flatpack No-Lead, Body 9 x 9 mm, Pitch 0.5 mm; Supplier 1: Digi-Key; Supplier Part Number 1: ADS8370IRHPR-ND; Digital Supply(Max)(V): 1.9; Digital Supply(Min)(V): 1.7; Eco-Plan: Green (RoHS & no Sb/Br); Mounting Technology: Surface Mount; ComponentLink1Description: Manufacturer URL; ComponentLink1URL: http://www.ti.com/; ComponentLink2Description: Datasheet; ComponentLink2URL: http://www.ti.com/general/docs/lit/getliterature.tsp?genericPartNumber=ADS4242&fileType=pdf; ComponentLink3Description: Package Specification; ComponentLink3URL: http://www.ti.com/litv/pdf/mpqf125e
footprint TI-RGC64-7400X7400TP_V (QFN, 64-Leads, Body 9x9mm, Pitch 0.5mm, Thermal Pad 7.4x7.4mm, TI Recommended)
part A pins: 2 DB4P/DB4 (hiz), 3 DB4M/DB5 (hiz), 4 DB6P/DB6 (hiz), 5 DB6M/DB7 (hiz), 6 DB8P/DB8 (hiz), 7 DB8M/DB9 (hiz), 8 DB10P/DB10 (hiz), 9 DB10M/DB11 (hiz), 10 DB12P/DB12 (hiz), 11 DB12M/DB13 (hiz), 12 RESET (in) "Serial interface RESET input. When using the serial interface mode, the internal registers must be initialized through a hardware RESET by applying a high pulse on this pin or by using the software reset option; refer to the (See Datasheet)", 13 SCLK (in) "This pin functions as a serial interface clock input when RESET is low. It controls the low-speed mode selection when RESET is tied high; see Table 5 for detailed information. This pin has an internal 150kohm pull-down (See Datasheet)", 14 SDATA (in) "Serial interface data input; this pin has an internal 150kohm pull-down resistor.", 15 SEN (in) "This pin functions as a serial interface enable input when RESET is low. It controls the output interface and data format selection when RESET is tied high; see Table 6 for detailed information. This pin has an internal (See Datasheet)", 19 INP_B (in) "Differential analog positive input, channel B", 20 INM_B (in) "Differential analog negative input, channel B", 23 VCM (out) "This pin outputs the common-mode voltage (0.95V) that can be used externally to bias the analog input pins", 25 CLKP (in) "Differential clock positive input", 26 CLKM (in) "Differential clock negative input", 29 INP_A (in) "Differential analog positive input, channel A", 30 INM_A (in) "Differential analog negative input, channel A", 35 CTRL1 (in) "Digital control input pins. Together, they control the various power-down modes.", 36 CTRL2 (in) "Digital control input pins. Together, they control the various power-down modes.", 37 CTRL3 (in) "Digital control input pins. Together, they control the various power-down modes.", 40 DA0P/DA0 (hiz), 41 DA0M/DA1 (hiz), 42 DA2P/DA2 (hiz), 43 DA2M/DA3 (hiz), 44 DA4P/DA4 (hiz), 45 DA4M/DA5 (hiz), 46 DA6P/DA6 (hiz), 47 DA6M/DA7 (hiz), 50 DA8P/DA8 (hiz), 51 DA8M/DA9 (hiz), 52 DA10P/DA10 (hiz), 53 DA10M/DA11 (hiz), 54 DA12P/DA12 (hiz), 55 DA12M/DA13 (hiz), 56 CLKOUTM/UNUSED (out), 57 CLKOUTP/CLKOUT (out), 60 DB0P/DB0 (hiz), 61 DB0M/DB1 (hiz), 62 DB2P/DB2 (hiz), 63 DB2M/DB3 (hiz), 64 SDOUT (hiz) "This pin functions as a serial interface register readout when the READOUT bit is enabled. When READOUT = 0, this pin is in high-impedance state."
part B pins: 1 DRVDD (power) "Output buffer supply", 16 AVDD (power) "Analog power supply", 17 AGND (power) "Analog ground", 18 AGND (power) "Analog ground", 21 AGND (power) "Analog ground", 22 AVDD (power) "Analog power supply", 24 AGND (power) "Analog ground", 27 AGND (power) "Analog ground", 28 AGND (power) "Analog ground", 31 AGND (power) "Analog ground", 32 AGND (power) "Analog ground", 33 AVDD (power) "Analog power supply", 34 AVDD (power) "Analog power supply", 48 DRVDD (power) "Output buffer supply", 49 DRGND (power) "Output buffer ground", 65 DRGND (power) "Output buffer ground"
part C pins: 38 NC "Do not connect, must be floated", 39 NC "Do not connect, must be floated", 58 NC "Do not connect, must be floated", 59 NC "Do not connect, must be floated"

## ADS4245IRGC25
designator U?
14-Bit 125 MSPS Dual Low Power ADC, -40 to 85 degC, 64-pin QFN (RGC64), Green (RoHS & no Sb/Br); Manufacturer: Texas Instruments; PartNumber: ADS4245IRGC25; # Input Channels: 2; Analog Voltage AV/DD(Max)(V): 1.9; Analog Voltage AV/DD(Min)(V): 1.7; Architecture: Pipeline; ENOB(Bits): 11.5; INL(Max)(+/-LSB): 5; Interface: Parallel CMOS, Parallel LVDS; Resolution(Bits): 14; Sample Rate (max)(SPS): 125M; SFDR(dB): 88; SINAD(dB): 73.2; SNR(dB): 73.4; SubFamily: High Speed ADC (>10MSPS); DatasheetVersion: SBAS533C; PackageVersion: 4204106/F, 11/2011; PackageReference: RGC64-7400X7400TP; PackageDescription: 64-Pin Plastic Quad Flatpack No-Lead, Body 9 x 9 mm, Pitch 0.5 mm; Supplier 1: Digi-Key; Supplier Part Number 1: ADS8370IRHPRG4-ND; Digital Supply(Max)(V): 1.9; Digital Supply(Min)(V): 1.7; Eco-Plan: Green (RoHS & no Sb/Br); Mounting Technology: Surface Mount; ComponentLink1Description: Manufacturer URL; ComponentLink1URL: http://www.ti.com/; ComponentLink2Description: Datasheet; ComponentLink2URL: http://www.ti.com/general/docs/lit/getliterature.tsp?genericPartNumber=ADS4245&fileType=pdf; ComponentLink3Description: Package Specification; ComponentLink3URL: http://www.ti.com/litv/pdf/mpqf125e
footprint TI-RGC64-7400X7400TP_V (QFN, 64-Leads, Body 9x9mm, Pitch 0.5mm, Thermal Pad 7.4x7.4mm, TI Recommended)
part A pins: 2 DB4M/DB4 (hiz), 3 DB4P/DB5 (hiz), 4 DB6M/DB6 (hiz), 5 DB6P/DB7 (hiz), 6 DB8M/DB8 (hiz), 7 DB8P/DB9 (hiz), 8 DB10M/DB10 (hiz), 9 DB10P/DB11 (hiz), 10 DB12M/DB12 (hiz), 11 DB12P/DB13 (hiz), 12 RESET (in) "Serial interface RESET input. When using the serial interface mode, the internal registers must be initialized through a hardware RESET by applying a high pulse on this pin or by using the software reset option; refer to the (See Datasheet)", 13 SCLK (in) "This pin functions as a serial interface clock input when RESET is low. It controls the low-speed mode selection when RESET is tied high; see Table 5 for detailed information. This pin has an internal 150kohm pull-down (See Datasheet)", 14 SDATA (in) "Serial interface data input; this pin has an internal 150kohm pull-down resistor.", 15 SEN (in) "This pin functions as a serial interface enable input when RESET is low. It controls the output interface and data format selection when RESET is tied high; see Table 6 for detailed information. This pin has an internal (See Datasheet)", 19 INP_B (in) "Differential analog positive input, channel B", 20 INM_B (in) "Differential analog negative input, channel B", 23 VCM (out) "This pin outputs the common-mode voltage (0.95V) that can be used externally to bias the analog input pins", 25 CLKP (in) "Differential clock positive input", 26 CLKM (in) "Differential clock negative input", 29 INP_A (in) "Differential analog positive input, channel A", 30 INM_A (in) "Differential analog negative input, channel A", 35 CTRL1 (in) "Digital control input pins. Together, they control the various power-down modes.", 36 CTRL2 (in) "Digital control input pins. Together, they control the various power-down modes.", 37 CTRL3 (in) "Digital control input pins. Together, they control the various power-down modes.", 40 DA0M/DA0 (hiz), 41 DA0P/DA1 (hiz), 42 DA2M/DA2 (hiz), 43 DA2P/DA3 (hiz), 44 DA4M/DA4 (hiz), 45 DA4P/DA5 (hiz), 46 DA6M/DA6 (hiz), 47 DA6P/DA7 (hiz), 50 DA8M/DA8 (hiz), 51 DA8P/DA9 (hiz), 52 DA10M/DA10 (hiz), 53 DA10P/DA11 (hiz), 54 DA12M/DA12 (hiz), 55 DA12P/DA13 (hiz), 56 CLKOUTM/UNUSED (hiz), 57 CLKOUTP/CLKOUT (hiz), 60 DB0M/DB0 (hiz), 61 DB0P/DB1 (hiz), 62 DB2M/DB2 (hiz), 63 DB2P/DB3 (hiz), 64 SDOUT (hiz) "This pin functions as a serial interface register readout when the READOUT bit is enabled. When READOUT = 0, this pin is in high-impedance state."
part B pins: 1 DRVDD (power) "Output buffer supply", 16 AVDD (power) "Analog power supply", 17 AGND (power) "Analog ground", 18 AGND (power) "Analog ground", 21 AGND (power) "Analog ground", 22 AVDD (power) "Analog power supply", 24 AGND (power) "Analog ground", 27 AGND (power) "Analog ground", 28 AGND (power) "Analog ground", 31 AGND (power) "Analog ground", 32 AGND (power) "Analog ground", 33 AVDD (power) "Analog power supply", 34 AVDD (power) "Analog power supply", 48 DRVDD (power) "Output buffer supply", 49 DRGND (power) "Output buffer ground", 65 DRGND (power) "Output buffer ground"
part C pins: 38 NC "Do not connect, must be floated", 39 NC "Do not connect, must be floated", 58 NC "Do not connect, must be floated", 59 NC "Do not connect, must be floated"